# EAGLE library part AD210 (library opamps)
AD210: 3-port isolation amplifier (Analog Devices) ±15V, ±5mA, 10nA bias 20kHz UGF, 18nV/rt(Hz) noise, 10mVpp ripple
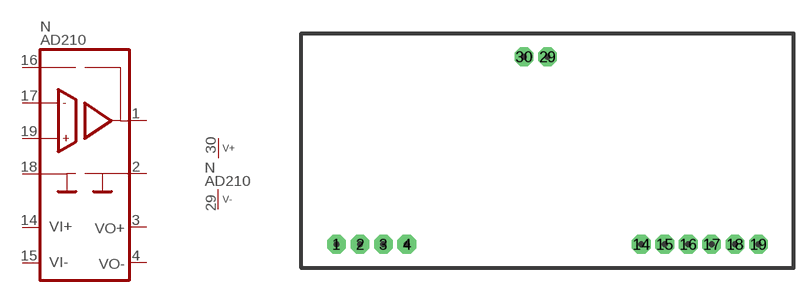
[diagram p244: symbol with the pads of AD210; footprint AD210]

Designator prefix N; gates A=AD210 P=V+-

## AD210  [AD210]
1  A:OPO  out
2  A:OCOM
3  A:VO+  out
4  A:VO-  out
14  A:VI+  out
15  A:VI-  out
16  A:FB
17  A:OP-  in
18  A:ICOM
19  A:OP+  in
29  P:V-  pwr
30  P:V+  pwr

## Footprint AD210 (pad centres in mm)
AD210: Hybrid package
drill 0.813 pad 2.032 octagon: 1 -22.86,-10.16; 2 -20.32,-10.16; 3 -17.78,-10.16; 4 -15.24,-10.16; 14 10.16,-10.16; 15 12.7,-10.16; 16 15.24,-10.16; 17 17.78,-10.16; 18 20.32,-10.16; 19 22.86,-10.16; 29 0,10.16; 30 -2.54,10.16